# EAGLE library part ESC (library BLUE_ESC)
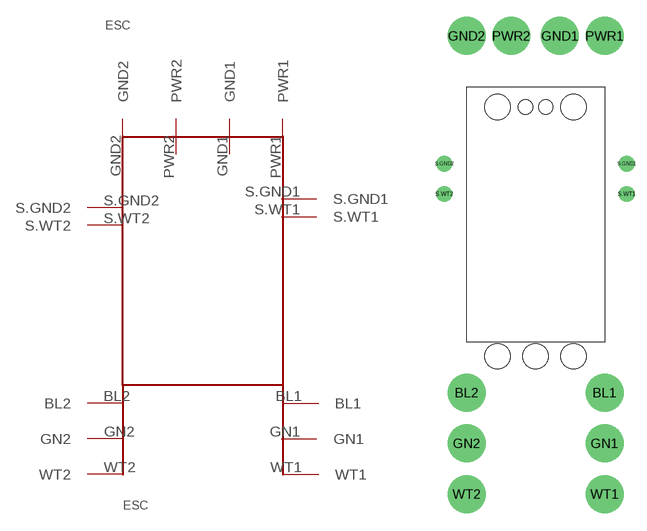
[diagram p0: symbol with the pads of ESC; footprint ESC]

Designator prefix ESC

## ESC  [ESC]
BL1  BL1
BL2  BL2
GN1  GN1
GN2  GN2
GND1  GND1
GND2  GND2
PWR1  PWR1
PWR2  PWR2
S.GND1  S.GND1
S.GND2  S.GND2
S.WT1  S.WT1
S.WT2  S.WT2
WT1  WT1
WT2  WT2

## Footprint ESC (pad centres in mm)
drill 2.381 pad 4.763: BL1 8.636,-22.352; BL2 -8.636,-22.352; GN1 8.636,-28.702; GN2 -8.636,-28.702; GND1 3.048,22.352; GND2 -8.636,22.352; PWR1 8.636,22.352; PWR2 -3.048,22.352; WT1 8.636,-35.052; WT2 -8.636,-35.052
drill 1.191 pad 1.984: S.GND1 11.43,6.35; S.GND2 -11.43,6.35; S.WT1 11.43,2.54; S.WT2 -11.43,2.54